# EAGLE library part MA05-2 (library we-con)
Pin Header
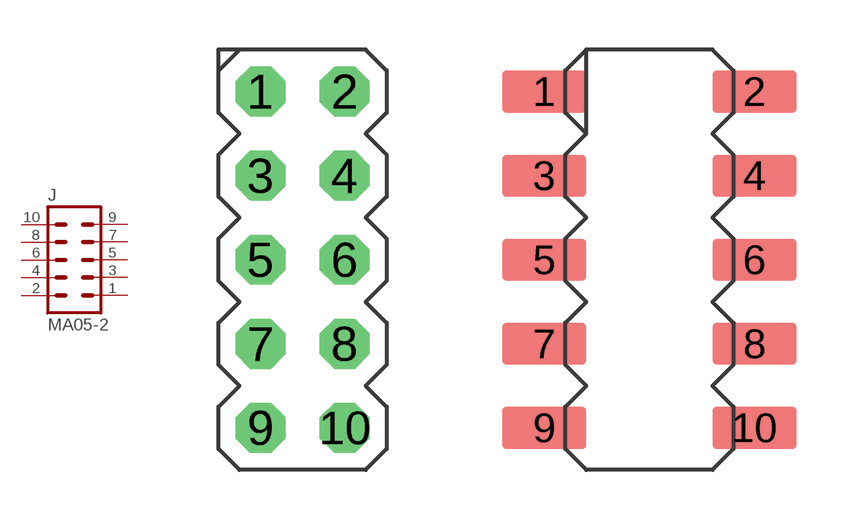
[diagram p3: symbol with the pads of MA05-2; footprints MA05-2, MA05-2_SMD]

Designator prefix J

## MA05-2  [MA05-2]
1  1  pas
2  2  pas
3  3  pas
4  4  pas
5  5  pas
6  6  pas
7  7  pas
8  8  pas
9  9  pas
10  10  pas

## MA05-2S  [MA05-2_SMD]
Pads as for MA05-2

## Footprint MA05-2 (pad centres in mm)
drill 1 octagon: 1 -1.27,5.08; 2 1.27,5.08; 3 -1.27,2.54; 4 1.27,2.54; 5 -1.27,0; 6 1.27,0; 7 -1.27,-2.54; 8 1.27,-2.54; 9 -1.27,-5.08; 10 1.27,-5.08

## Footprint MA05-2_SMD (pad centres in mm)
smd 2.54 x 1.27: 1 -3.175,5.08; 2 3.175,5.08; 3 -3.175,2.54; 4 3.175,2.54; 5 -3.175,0; 6 3.175,0; 7 -3.175,-2.54; 8 3.175,-2.54; 9 -3.175,-5.08; 10 3.175,-5.08